# Altium schematic symbol library Graphic.SchLib: 29 symbols
Pins are listed as number, name and electrical type; pins without a type are passive.

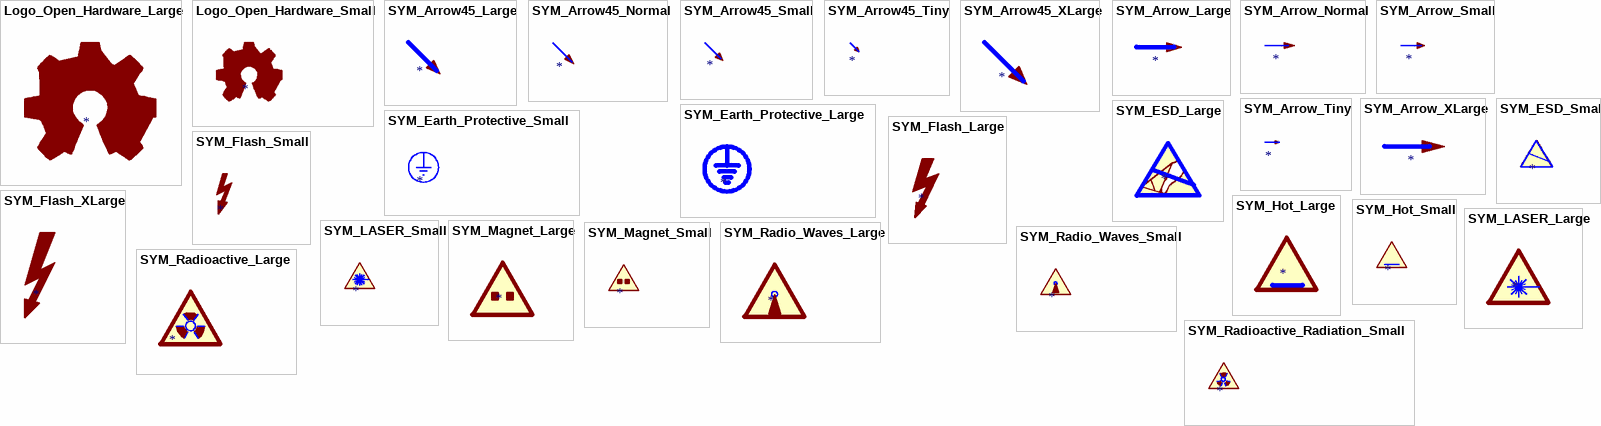
[diagram p0: symbols Logo_Open_Hardware_Large to SYM_Radioactive_Radiation_Small]

## Logo_Open_Hardware_Large
designator *
Value: Logo_Open_Hardware_Large; ki_keywords: Logo; ki_description: Open Hardware logo, large; Supplier: ~

## Logo_Open_Hardware_Small
designator *
Value: Logo_Open_Hardware_Small; ki_keywords: Logo; ki_description: Open Hardware logo, small; Supplier: ~

## SYM_Arrow45_Large
designator *
Value: SYM_Arrow45_Large; ki_keywords: symbol arrow angled 45°; ki_description: Filled 45° arrow, 300mil; Supplier: ~

## SYM_Arrow45_Normal
designator *
Value: SYM_Arrow45_Normal; ki_keywords: symbol arrow angled 45°; ki_description: Filled 45° arrow, 200mil; Supplier: ~

## SYM_Arrow45_Small
designator *
Value: SYM_Arrow45_Small; ki_keywords: symbol arrow angled 45°; ki_description: Filled 45° arrow, 160mil; Supplier: ~

## SYM_Arrow45_Tiny
designator *
Value: SYM_Arrow45_Tiny; ki_keywords: symbol arrow angled 45°; ki_description: Filled 45° arrow, 100mil; Supplier: ~

## SYM_Arrow45_XLarge
designator *
Value: SYM_Arrow45_XLarge; ki_keywords: symbol arrow 45° angled; ki_description: Filled 45° arrow, 400mil; Supplier: ~

## SYM_Arrow_Large
designator *
Value: SYM_Arrow_Large; ki_keywords: symbol arrow; ki_description: Filled arrow, 300mil; Supplier: ~

## SYM_Arrow_Normal
designator *
Value: SYM_Arrow_Normal; ki_keywords: symbol arrow; ki_description: Filled arrow, 200mil; Supplier: ~

## SYM_Arrow_Small
designator *
Value: SYM_Arrow_Small; ki_keywords: symbol arrow; ki_description: Filled arrow, 160mil; Supplier: ~

## SYM_Arrow_Tiny
designator *
Value: SYM_Arrow_Tiny; ki_keywords: symbol arrow; ki_description: Filled arrow, 100mil; Supplier: ~

## SYM_Arrow_XLarge
designator *
Value: SYM_Arrow_XLarge; ki_keywords: symbol arrow; ki_description: Filled arrow, 400mil; Supplier: ~

## SYM_Earth_Protective_Large
designator *
Value: SYM_Earth_Protective_Large; ki_keywords: graphical symbol earth protective; ki_description: Protective earth symbol, large; Supplier: ~

## SYM_Earth_Protective_Small
designator *
Value: SYM_Earth_Protective_Small; ki_keywords: graphical symbol earth protective; ki_description: Protective earth symbol, small; Supplier: ~

## SYM_ESD_Large
designator *
Value: SYM_ESD_Large; ki_keywords: symbol ESD; ki_description: ESD warning/"Do not touch" symbol, large; Supplier: ~

## SYM_ESD_Small
designator *
Value: SYM_ESD_Small; ki_keywords: symbol ESD; ki_description: ESD warning/"Do not touch" symbol, small; Supplier: ~

## SYM_Flash_Large
designator *
Value: SYM_Flash_Large; ki_keywords: graphic symbol flash VAC 220VAC 110VAC power; ki_description: Flash symbol, large; Supplier: ~

## SYM_Flash_Small
designator *
Value: SYM_Flash_Small; ki_keywords: graphic symbol flash VAC 220VAC 110VAC power; ki_description: Flash symbol, small; Supplier: ~

## SYM_Flash_XLarge
designator *
Value: SYM_Flash_XLarge; ki_keywords: graphic symbol flash VAC 220VAC 110VAC power; ki_description: Flash symbol, extra large; Supplier: ~

## SYM_Hot_Large
designator *
Value: SYM_Hot_Large; ki_keywords: symbol logo hot surface warning heat; ki_description: Hot surface warning symbol, large; Supplier: ~

## SYM_Hot_Small
designator *
Value: SYM_Hot_Small; ki_keywords: symbol logo hot surface warning heat; ki_description: Hot surface warning symbol, small; Supplier: ~

## SYM_LASER_Large
designator *
Value: SYM_LASER_Large; ki_keywords: symbol logo laser warning; ki_description: Laser radiation warning symbol, large; Supplier: ~

## SYM_LASER_Small
designator *
Value: SYM_LASER_Small; ki_keywords: symbol logo laser warning; ki_description: Laser radiation warning symbol, small; Supplier: ~

## SYM_Magnet_Large
designator *
Value: SYM_Magnet_Large; ki_keywords: symbol logo magnetic field warning; ki_description: Magnetic field warning symbol, large; Supplier: ~

## SYM_Magnet_Small
designator *
Value: SYM_Magnet_Small; ki_keywords: symbol logo magnetic field warning; ki_description: Magnetic field warning symbol, small; Supplier: ~

## SYM_Radio_Waves_Large
designator *
Value: SYM_Radio_Waves_Large; ki_keywords: symbol logo radio waves warning radiation; ki_description: Radio waves warning symbol, large; Supplier: ~

## SYM_Radio_Waves_Small
designator *
Value: SYM_Radio_Waves_Small; ki_keywords: symbol logo radio waves warning radiation; ki_description: Radio waves warning symbol, small; Supplier: ~

## SYM_Radioactive_Large
designator *
Value: SYM_Radioactive_Large; ki_keywords: symbol logo radioactive radiation warning heat; ki_description: Radioactive/radiation warning symbol, large; Supplier: ~

## SYM_Radioactive_Radiation_Small
designator *
Value: SYM_Radioactive_Radiation_Small; ki_keywords: symbol logo radioactive radiation warning; ki_description: Radioactive/radiation warning symbol, small; Supplier: ~